# EAGLE library part JST_S7B-PH-SM4-TB (library DMF-Additional_Supply_dmf)
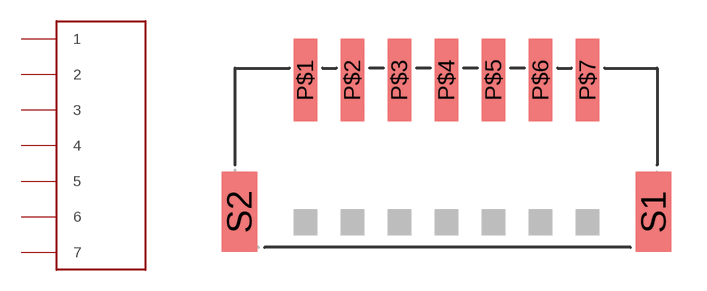
[diagram p0: symbol with the pads of JST_S7B-PH-SM4-TB; footprint JST_S7B-PH-SM4-TB]

Designator prefix J

## JST_S7B-PH-SM4-TB  [JST_S7B-PH-SM4-TB]
P$1  1
P$2  2
P$3  3
P$4  4
P$5  5
P$6  6
P$7  7

## Footprint JST_S7B-PH-SM4-TB (pad centres in mm)
smd 1 x 3.5: P$1 3.68,7.42; P$2 5.68,7.42; P$3 7.68,7.42; P$4 9.68,7.42; P$5 11.68,7.42; P$6 13.68,7.42; P$7 15.68,7.42
smd 1.5 x 3.4: S1 18.48,1.82; S2 0.88,1.82